# Altium schematic symbol library 2425755-1.Schlib: 1 symbol
Pins are listed as number, name and electrical type; pins without a type are passive.

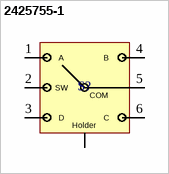
[diagram p0: symbol 2425755-1]

## 2425755-1
designator S?
5D Switch, 5 position tactile switch
pins: 1, 2, 3, 4, 5, 6, 7
text: A; B; SW; COM; D; C; Holder